# EAGLE library part 76602 (library trafo-murata)
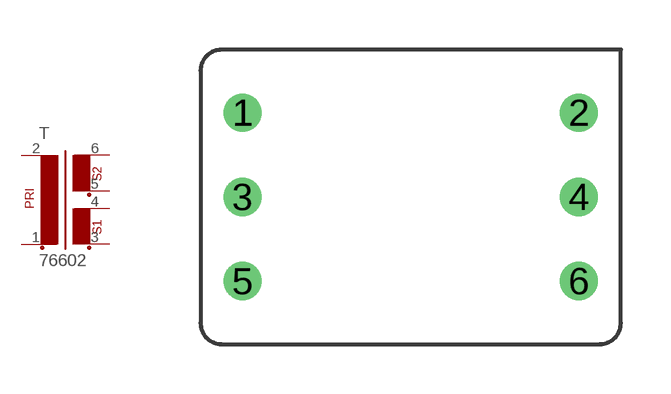
[diagram p1: symbol with the pads of 766-6; footprint 766-6]

Designator prefix T

## 76602  [766-6]
1  P1  pas
2  P2  pas
3  S11  pas
4  S12  pas
5  S21  pas
6  S22  pas

## Footprint 766-6 (pad centres in mm)
drill 0.65: 1 -5.08,2.54; 2 5.08,2.54; 3 -5.08,0; 4 5.08,0; 5 -5.08,-2.54; 6 5.08,-2.54